# EAGLE library part LM339NG (library ON_Semiconductor_By_element14_Batch_1)
Single Supply Quad Comparators
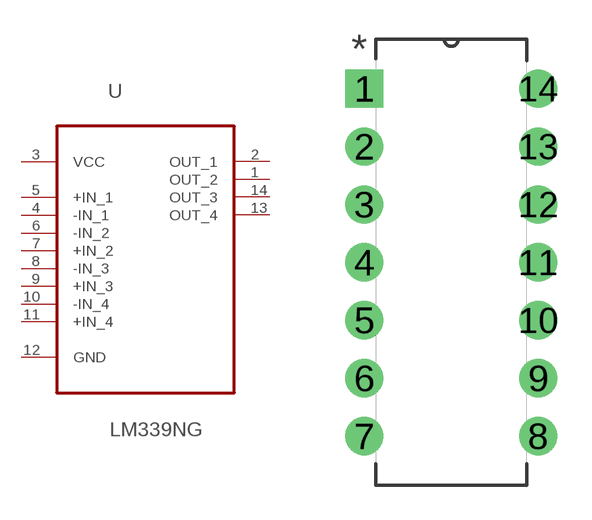
[diagram p60: symbol with the pads of DIP254P762X469-14; footprint DIP254P762X469-14]

Designator prefix U

## LM339NG (MPN: LM339NG; OC_FARNELL: 9664491; OC_NEWARK: 98H0576; PACKAGE: PDIP-14; SUPPLIER: On Semiconductor)  [DIP254P762X469-14]
1  OUT_2  out
2  OUT_1  out
3  VCC  pwr
4  -IN_1  in
5  +IN_1  in
6  -IN_2  in
7  +IN_2  in
8  -IN_3  in
9  +IN_3  in
10  -IN_4  in
11  +IN_4  in
12  GND  pas
13  OUT_4  out
14  OUT_3  out

## Footprint DIP254P762X469-14 (pad centres in mm)
drill 1.118 square: 1 -7.62,15.24
drill 1.118: 2 -7.62,12.7; 3 -7.62,10.16; 4 -7.62,7.62; 5 -7.62,5.08; 6 -7.62,2.54; 7 -7.62,0; 8 0,0; 9 0,2.54; 10 0,5.08; 11 0,7.62; 12 0,10.16; 13 0,12.7; 14 0,15.24